# EAGLE library part CC_DEBUGGER (library ble112)
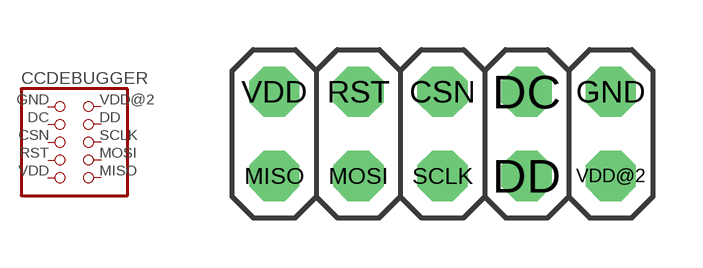
[diagram p1: symbol with the pads of PINHEADER2_5; footprint PINHEADER2_5]

Designator prefix -

## CC_DEBUGGER  [PINHEADER2_5]
CSN  CSN  pas
DC  DC  pas
DD  DD  pas
GND  GND  pas
MISO  MISO  pas
MOSI  MOSI  pas
RST  RST  pas
SCLK  SCLK  pas
VDD  VDD  pas
VDD@2  VDD  pas

## Footprint PINHEADER2_5 (pad centres in mm)
drill 1.016 octagon: CSN 0,1.27; DC 2.54,1.27; DD 2.54,-1.27; GND 5.08,1.27; MISO -5.08,-1.27; MOSI -2.54,-1.27; RST -2.54,1.27; SCLK 0,-1.27; VDD -5.08,1.27; VDD@2 5.08,-1.27